# EAGLE library part 61003618321 (library Board_to_Board_Connectors_rev15d)
WR-PHD 2.54mm SMT Pin Header, 36 Pins =>Code : Con_BTB_PHD_2.54_1_SMT_61003618321 <http://katalog.we-online.de/media/images/eican/Con_BTB_PHD_2.54_1_SMT_6100xx18221_pf2.jpg> Details see: http://katalog.we-online.de/en/em/610_0xx_182_21 Created 2014-05-29, Karrer Zheng 2014 (C) Würth Elektronik
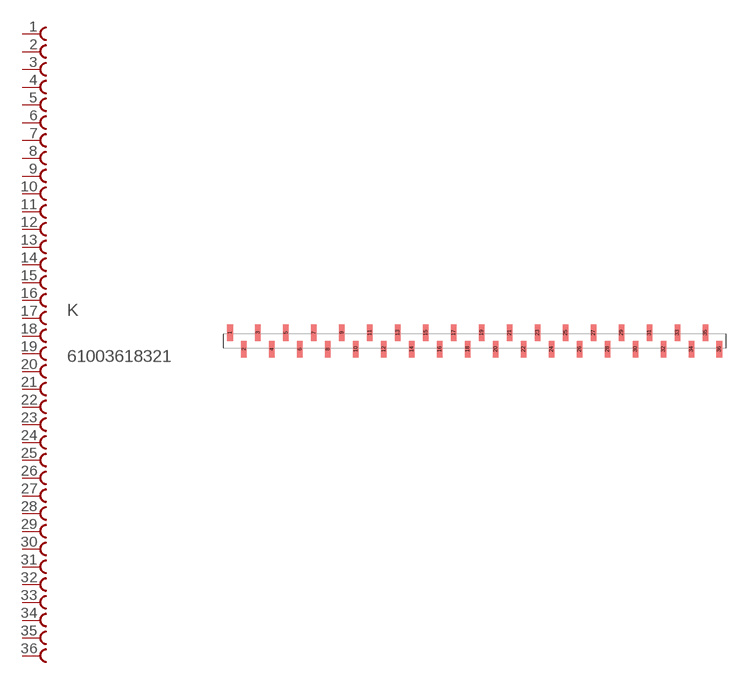
[diagram p72: symbol with the pads of 61003618321; footprint 61003618321]

Designator prefix K

## 61003618321  [61003618321]
1  1  pas
2  2  pas
3  3  pas
4  4  pas
5  5  pas
6  6  pas
7  7  pas
8  8  pas
9  9  pas
10  10  pas
11  11  pas
12  12  pas
13  13  pas
14  14  pas
15  15  pas
16  16  pas
17  17  pas
18  18  pas
19  19  pas
20  20  pas
21  21  pas
22  22  pas
23  23  pas
24  24  pas
25  25  pas
26  26  pas
27  27  pas
28  28  pas
29  29  pas
30  30  pas
31  31  pas
32  32  pas
33  33  pas
34  34  pas
35  35  pas
36  36  pas

## Footprint 61003618321 (pad centres in mm)
WR-PHD 2.54mm SMT Pin Header, 36 Pins
smd 1 x 3: 1 -44.45,1.5; 2 -41.91,-1.5; 3 -39.37,1.5; 4 -36.83,-1.5; 5 -34.29,1.5; 6 -31.75,-1.5; 7 -29.21,1.5; 8 -26.67,-1.5; 9 -24.13,1.5; 10 -21.59,-1.5; 11 -19.05,1.5; 12 -16.51,-1.5; 13 -13.97,1.5; 14 -11.43,-1.5; 15 -8.89,1.5; 16 -6.35,-1.5; 17 -3.81,1.5; 18 -1.27,-1.5; 19 1.27,1.5; 20 3.81,-1.5; 21 6.35,1.5; 22 8.89,-1.5; 23 11.43,1.5; 24 13.97,-1.5; 25 16.51,1.5; 26 19.05,-1.5; 27 21.59,1.5; 28 24.13,-1.5; 29 26.67,1.5; 30 29.21,-1.5; 31 31.75,1.5; 32 34.29,-1.5; 33 36.83,1.5; 34 39.37,-1.5; 35 41.91,1.5; 36 44.45,-1.5